# EAGLE library part JUMPER_JP5QE (library SDI12IB_v0.5)
JUMPER
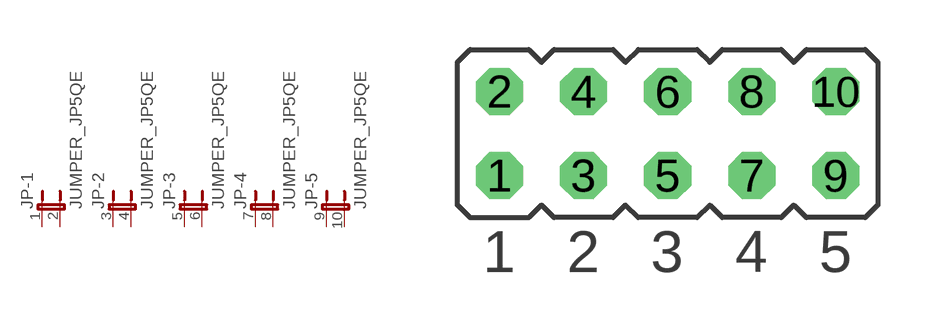
[diagram p1: symbol with the pads of JUMPER_JP5Q; footprint JUMPER_JP5Q]

Designator prefix JP; gates -1=JUMPER_JP2E -2=JUMPER_JP2E -3=JUMPER_JP2E -4=JUMPER_JP2E -5=JUMPER_JP2E

## JUMPER_JP5QE  [JUMPER_JP5Q]
1  -1:1  pas
2  -1:2  pas
3  -2:1  pas
4  -2:2  pas
5  -3:1  pas
6  -3:2  pas
7  -4:1  pas
8  -4:2  pas
9  -5:1  pas
10  -5:2  pas

## Footprint JUMPER_JP5Q (pad centres in mm)
JUMPER
drill 0.914 octagon: 1 -5.08,-1.27; 2 -5.08,1.27; 3 -2.54,-1.27; 4 -2.54,1.27; 5 0,-1.27; 6 0,1.27; 7 2.54,-1.27; 8 2.54,1.27; 9 5.08,-1.27; 10 5.08,1.27